# Altium schematic symbol library Schlib1.SchLib: 36 symbols
Pins are listed as number, name and electrical type; pins without a type are passive.

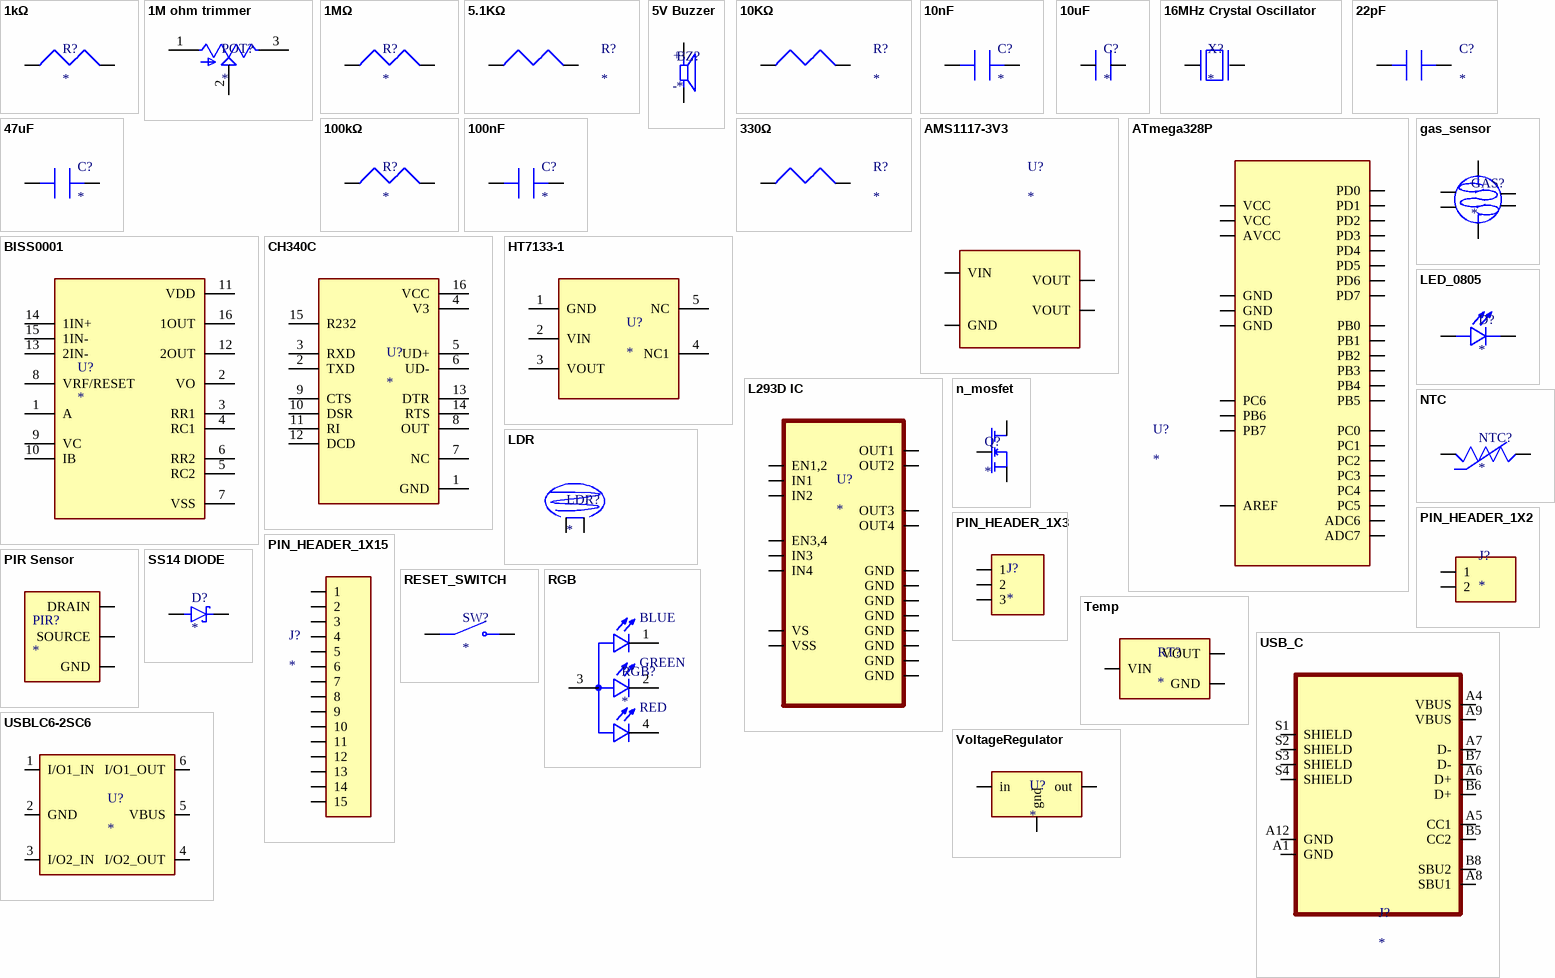
[diagram p0: symbols 1kΩ to VoltageRegulator]

## 1kΩ
designator R?
RES 1kΩ ±1% 125mW 0805; MFR: FOJAN; MFR part #: FRC0805F1001TS; supplier: lcsc; supplier part #: C2907232; ComponentLink1Description: New link; ComponentLink1URL: https://www.lcsc.com/product-detail/C2907232.html?s_z=n_q_t_resistor%25200805&spm=wm.fly.bg.1.xh___wm.ssy.tc.0.tz&lcsc_vid=RQUMVgBfFQNaX1cDEQBcUQJeElRWU1MCTwJYVlNRQlExVlNeTlBaUlJURlFWXjsOAxUeFF5JWBYZEEoKFBINSQcJGk4eFQsCAgIaSgADAwAHC0slRFlYV1xTWQkaCgg%3D; ComponentLink2Description: datasheet; ComponentLink2URL: https://www.lcsc.com/datasheet/C2907232.pdf?spm=wm.sxq.inf.ggs___wm.fly.bg.1.xh&lcsc_vid=RQUMVgBfFQNaX1cDEQBcUQJeElRWU1MCTwJYVlNRQlExVlNeTlBaUlJURlFWXjsOAxUeFF5JWBYZEEoKFBINSQcJGk4eFQsCAgIaSgADAwAHC0slRFlYV1xTWQkaCgg%3D
footprint RESC2013X55N (Chip Resistor, 2-Leads, Body 2.00x1.27mm, IPC Medium Density)
pins: 1 4, 2 5

## 1M ohm trimmer
designator POT?
POT 10kΩ 500mW Through Hole-3P,7x6.6mm; MFR: BOURNS; MFR part #: 3362P-1-103LF; supplier: lcsc; supplier part #: C58159; ComponentLink1Description: New link; ComponentLink1URL: https://www.lcsc.com/product-detail/C58159.html?s_z=n_q_t_3362&spm=wm.fly.bg.0.xh___wm.ssy.tc.0.tz&lcsc_vid=EVULUAZXQgMNAwVTEQcNAVxTFlNbX1YFFVgNBV1RQ1kxVlNeTlBbXlZWR1BWUzsOAxUeFF5JWBYZEEoKFBINSQcJGk4eFQsCAgIaSgADAwAHC0slRlNWVlFUWQkaCgg%3D; ComponentLink2Description: datasheet; ComponentLink2URL: https://www.lcsc.com/datasheet/C58159.pdf?spm=wm.sxq.inf.ggs___wm.fly.bg.0.xh&lcsc_vid=EVULUAZXQgMNAwVTEQcNAVxTFlNbX1YFFVgNBV1RQ1kxVlNeTlBbXlZWR1BWUzsOAxUeFF5JWBYZEEoKFBINSQcJGk4eFQsCAgIaSgADAwAHC0slRlNWVlFUWQkaCgg%3D
footprint 1M ohm Trimmer
pins: 1 CCW, 2 WIPER, 3 CW

## 1MΩ
designator R?
RES 1MΩ ±1% 125mW 0805; MFR: FOJAN; MFR part #: FRC0805F1004TS; supplier: lcsc; supplier part #: C2933280; ComponentLink1Description: New link; ComponentLink1URL: https://www.lcsc.com/product-detail/C2933280.html?s_z=n_q_t_1000k%2520ohm&spm=wm.fly.bg.3.xh___wm.ssy.tc.0.tz&lcsc_vid=EVULUAZXQgMNAwVTEQcNAVxTFlNbX1YFFVgNBV1RQ1kxVlNeTlBbXlNSQFZeUDsOAxUeFF5JWBYZEEoKFBINSQcJGk4NBhADEA4cHktXRlhXSQwSGg0%3D; ComponentLink2Description: datasheet; ComponentLink2URL: https://www.lcsc.com/datasheet/C2933280.pdf?spm=wm.sxq.inf.ggs___wm.fly.bg.3.xh&lcsc_vid=EVULUAZXQgMNAwVTEQcNAVxTFlNbX1YFFVgNBV1RQ1kxVlNeTlBbXlNSQFZeUDsOAxUeFF5JWBYZEEoKFBINSQcJGk4NBhADEA4cHktXRlhXSQwSGg0%3D
footprint RESC2013X55N (Chip Resistor, 2-Leads, Body 2.00x1.27mm, IPC Medium Density)
pins: 1 4, 2 5

## 5.1KΩ
designator R?
RES 5.1kΩ ±1% 62.5mW 0402; MFR: YAGEO; MFR part #: RC0402FR-075K1L; Supplier: LCSC; ComponentLink1Description: New link; ComponentLink1URL: https://www.lcsc.com/product-detail/C105872.html?s_z=n_q_t_res%25205.1k&spm=wm.fly.bg.0.xh___wm.ssy.tc.0.tz&lcsc_vid=EgReBFUDQwddVldUQgMNAlFTFlRdVlRRRAUNAVZRRlIxVlNeQFRfV1JRR1FdXzsOAxUeFF5JWBYZEEoKFBINSQcJGk4dAgUUFAk%3D; Supplier part #: C105872; ComponentLink2Description: data sheet; ComponentLink2URL: https://www.lcsc.com/datasheet/C105872.pdf?spm=wm.sxq.inf.ggs___wm.fly.bg.0.xh&lcsc_vid=EgReBFUDQwddVldUQgMNAlFTFlRdVlRRRAUNAVZRRlIxVlNeQFRfV1JRR1FdXzsOAxUeFF5JWBYZEEoKFBINSQcJGk4dAgUUFAk%3D
footprint RESC1005X40N (Chip Resistor, 2-Leads, Body 1.00x0.50mm, IPC Medium Density)
pins: 1 4, 2 5

## 5V Buzzer
designator BZ?
Electro-Magnetic Buzzer (SMD Type); MFR: Huaneng; ComponentLink1Description: New link; ComponentLink1URL: https://www.lcsc.com/product-detail/C94599.html; MFR part #: MLT-8530; supplier: LCSC; supplier part #: C94599; ComponentLink2Description: Datasheet; ComponentLink2URL: https://www.lcsc.com/datasheet/C94599.pdf?spm=wm.sxq.inf.ggs&lcsc_vid=EVULUAZXQgMNAwVTEQcNAVxTFlNbX1YFFVgNBV1RQ1kxVlNeTlFaV1ReR1hfUjsOAxUeFF5JWAYLCg0IHk8JCAsBGwRABAsLWA%3D%3D
footprint Buzzer
pins: N, P
text: +; -

## 10KΩ
designator R?
RES 10kΩ ±1% 100mW 0603; MFR: YAGEO; MFR part #: RC0603FR-0710KL; Supplier: LCSC; ComponentLink1Description: New link; ComponentLink1URL: https://www.lcsc.com/product-detail/C98220.html?s_z=n_q_p_RES%252010K%2520OHM&spm=wm.ssy.bg.0.xh&lcsc_vid=EgReBFUDQwddVldUQgMNAlFTFlRdVlRRRAUNAVZRRlIxVlNeQFRZX11XRFNaVTsOAxUeFF5JWBYZEEoKFBINSQcJGk4NBhADEA4cHktXRlhXSQwSGg0%3D; Supplier part #: C98220; ComponentLink2Description: data sheet; ComponentLink2URL: https://www.lcsc.com/datasheet/C98220.pdf?spm=wm.sxq.inf.ggs___wm.ssy.bg.0.xh&lcsc_vid=EgReBFUDQwddVldUQgMNAlFTFlRdVlRRRAUNAVZRRlIxVlNeQFRZX11XRFNaVTsOAxUeFF5JWBYZEEoKFBINSQcJGk4NBhADEA4cHktXRlhXSQwSGg0%3D
footprint RES_10K_0603
pins: 1 4, 2 5

## 10nF
designator C?
CAP CER 10nF 50V X7R 0603; MFR: YAGEO; MFR part #: CC0603KRX7R9BB103; supplier: LCSC; ComponentLink1Description: New link; ComponentLink1URL: https://www.lcsc.com/product-detail/C100042.html?s_z=n_q_t_10NF&spm=wm.fly.bg.1.xh___wm.ssy.tc.0.tz&lcsc_vid=EVULUAZXQgMNAwVTEQcNAVxTFlNbX1YFFVgNBV1RQ1kxVlNeTlBbXl1QRlNbUzsOAxUeFF5JWBYZEEoKFBINSQcJGk4eFQsCAgIaSgADAwAHC0slRVhdVFZeR08GEwkK; supplier part #: C100042; ComponentLink2Description: data sheet; ComponentLink2URL: https://www.lcsc.com/datasheet/C100042.pdf?spm=wm.sxq.inf.ggs___wm.fly.bg.1.xh&lcsc_vid=EVULUAZXQgMNAwVTEQcNAVxTFlNbX1YFFVgNBV1RQ1kxVlNeTlBbXl1QRlNbUzsOAxUeFF5JWBYZEEoKFBINSQcJGk4eFQsCAgIaSgADAwAHC0slRVhdVFZeR08GEwkK
footprint CAP_0603_100nf
pins: 1, 2

## 10uF
designator C?
CAP CER 10uF 25V X5R 0805; MFR: Taiyo Yuden; MFR part #: TMK212BBJ106KG-T; supplier: lcsc; supplier part #: C386085; ComponentLink1Description: New link; ComponentLink1URL: https://www.lcsc.com/product-detail/C386085.html?s_z=n_q_t_capacitor%25200805%2520&spm=wm.fly.bg.0.xh___wm.ssy.tc.0.tz&lcsc_vid=RQUMVgBfFQNaX1cDEQBcUQJeElRWU1MCTwJYVlNRQlExVlNeTlBaUldRQ1hZXzsOAxUeFF5JWBYZEEoKFBINSQcJGk4dAgUUFAk%3D; ComponentLink2Description: datasheet; ComponentLink2URL: https://www.lcsc.com/datasheet/C386085.pdf?spm=wm.sxq.inf.ggs___wm.fly.bg.0.xh&lcsc_vid=RQUMVgBfFQNaX1cDEQBcUQJeElRWU1MCTwJYVlNRQlExVlNeTlBaUldRQ1hZXzsOAxUeFF5JWBYZEEoKFBINSQcJGk4dAgUUFAk%3D
footprint CAP_0805_10uf (Chip Capacitor, 2-Leads, Body 2.00x1.25mm, IPC Medium Density)
pins: 1, 2

## 16MHz Crystal Oscillator
designator X?
CRYSTAL 16MHz 20pF SMD; MFR: YXC Crystal Oscillators; MFR part #: X49SM16MSD2SC; supplier: LCSC; supplier part #: C12676; ComponentLink1Description: New link; ComponentLink1URL: https://www.lcsc.com/product-detail/C12676.html; ComponentLink2Description: datasheet; ComponentLink2URL: https://www.lcsc.com/datasheet/C12676.pdf?spm=wm.sxq.inf.ggs&lcsc_vid=EVULUAZXQgMNAwVTEQcNAVxTFlNbX1YFFVgNBV1RQ1kxVlNeT1lfXlBURFlWVzsOAxUeFF5JWAYLCg0IHk8JCAsBGwRABAsLWA%3D%3D
footprint 16MHz Crystal
pins: 1, 2

## 22pF
designator C?
CAP CER 22pF 50V NP0 0402; MFR: YAGEO; MFR part #: CC0402JRNPO9BN220; ComponentLink1Description: New link; ComponentLink1URL: https://www.lcsc.com/product-detail/C106203.html?s_z=n_q_t_22pf&spm=wm.fly.bg.4.xh___wm.ssy.tc.0.tz&lcsc_vid=EVULUAZXQgMNAwVTEQcNAVxTFlNbX1YFFVgNBV1RQ1kxVlNeT1lcV1RUTlRbVzsOAxUeFF5JWBYZEEoKFBINSQcJGk4eFQsCAgIaSgADAwAHC0slRlNYUFJIHxUDCw%3D%3D; supplier: LCSC; supplier part #: C106203; ComponentLink2Description: datasheet; ComponentLink2URL: https://www.lcsc.com/datasheet/C106203.pdf?spm=wm.sxq.inf.ggs___wm.fly.bg.4.xh&lcsc_vid=EVULUAZXQgMNAwVTEQcNAVxTFlNbX1YFFVgNBV1RQ1kxVlNeT1lcV1RUTlRbVzsOAxUeFF5JWBYZEEoKFBINSQcJGk4eFQsCAgIaSgADAwAHC0slRlNYUFJIHxUDCw%3D%3D
footprint CAP_0402_22PF (Chip Capacitor, 2-Leads, Body 1.00x0.50mm, IPC Medium Density)
pins: 1, 2

## 47uF
designator C?
CAP CER 47uF 6.3V X5R 0603; MFR: muRata; MFR part #: GRM188R60J476ME15D; supplier: LCSC; ComponentLink1Description: New link; ComponentLink1URL: https://www.lcsc.com/product-detail/C140782.html?s_z=n_q_t_47UF&spm=wm.fly.bg.10.xh___wm.ssy.tc.2.tz&lcsc_vid=EVULUAZXQgMNAwVTEQcNAVxTFlNbX1YFFVgNBV1RQ1kxVlNeTlNfUVJXQ1JfVzsOAxUeFF5JWBYZEEoKFBINSQcJGk4%3D; supplier part #: C140782; ComponentLink2Description: data sheet; ComponentLink2URL: https://www.lcsc.com/datasheet/C140782.pdf?spm=wm.sxq.inf.ggs___wm.fly.bg.10.xh&lcsc_vid=EVULUAZXQgMNAwVTEQcNAVxTFlNbX1YFFVgNBV1RQ1kxVlNeTlNfUVJXQ1JfVzsOAxUeFF5JWBYZEEoKFBINSQcJGk4%3D
footprint CAP_0603_100nf
pins: 1, 2

## 100kΩ
designator R?
RES 100kΩ ±1% 125mW 0805; MFR: UNI-ROYAL; MFR part #: 0805W8F1003T5E; supplier: lcsc; supplier part #: C149504; ComponentLink1Description: New link; ComponentLink1URL: https://www.lcsc.com/product-detail/C149504.html?s_z=n_q_t_100%2520k%25CE%25A9%2520resistor%25200805&spm=wm.fly.bg.0.xh___wm.ssy.tc.0.tz&lcsc_vid=RQUMVgBfFQNaX1cDEQBcUQJeElRWU1MCTwJYVlNRQlExVlNeTlBcV1xUQVlbUjsOAxUeFF5JWBYZEEoKFBINSQcJGk4NBhADEA4cHktXRlhXSQwSGg0%3D; ComponentLink2Description: datasheet; ComponentLink2URL: https://www.lcsc.com/datasheet/C149504.pdf?spm=wm.sxq.inf.ggs___wm.fly.bg.0.xh&lcsc_vid=RQUMVgBfFQNaX1cDEQBcUQJeElRWU1MCTwJYVlNRQlExVlNeTlBcV1xUQVlbUjsOAxUeFF5JWBYZEEoKFBINSQcJGk4NBhADEA4cHktXRlhXSQwSGg0%3D
footprint RESC2013X55N (Chip Resistor, 2-Leads, Body 2.00x1.27mm, IPC Medium Density)
pins: 1 4, 2 5

## 100nF
designator C?
CAP CER 100nF 50V X7R 0603; MFR: Samsung Electro-Mechanics; MFR part #: CL10B104KB8NNNC; supplier: LCSC; ComponentLink1Description: New link; ComponentLink1URL: https://www.lcsc.com/product-detail/C1591.html?s_z=n_q_p_cap%2520100n%2520&spm=wm.ssy.bg.0.xh&lcsc_vid=EgReBFUDQwddVldUQgMNAlFTFlRdVlRRRAUNAVZRRlIxVlNeQFRWUFBTQ1lcVjsOAxUeFF5JWBYZEEoKFBINSQcJGk4NBhADEA4cHktQQlBADxALGw%3D%3D; supplier part #: C1591; ComponentLink2Description: data sheet; ComponentLink2URL: https://www.lcsc.com/datasheet/C1591.pdf?spm=wm.sxq.inf.ggs___wm.ssy.bg.0.xh&lcsc_vid=EgReBFUDQwddVldUQgMNAlFTFlRdVlRRRAUNAVZRRlIxVlNeQFRWUFBTQ1lcVjsOAxUeFF5JWBYZEEoKFBINSQcJGk4NBhADEA4cHktQQlBADxALGw%3D%3D
footprint CAP_0603_100nf
pins: 1, 2

## 330Ω
designator R?
RES 330Ω ±1% 125mW 0805; MFR: UNI-ROYAL; MFR part #: 0805W8F3300T5E; Supplier: LCSC; ComponentLink1Description: New link; ComponentLink1URL: https://www.lcsc.com/product-detail/C17630.html?s_z=n_q_0805%2520330%2520ohm%2520resistor&spm=wm.fly.bg.0.xh&lcsc_vid=T1QNA1xeQFcIAlReRFQMVgBVFlhZUV1RE1VaUQcHQgQxVlNeQVZeUVVVRlRZVjsOAxUeFF5JWBYZEEoKFBINSQcJGk4NBhADEA4cHktXRlhXSQwSGg0%3D; Supplier part #: C17630; ComponentLink2Description: data sheet; ComponentLink2URL: https://www.lcsc.com/datasheet/C17630.pdf?spm=wm.sxq.inf.ggs___wm.fly.bg.0.xh&lcsc_vid=T1QNA1xeQFcIAlReRFQMVgBVFlhZUV1RE1VaUQcHQgQxVlNeQVZeUVVVRlRZVjsOAxUeFF5JWBYZEEoKFBINSQcJGk4NBhADEA4cHktXRlhXSQwSGg0%3D
footprint RESC2013X65N (Chip Resistor, 2-Leads, Body 2.00x1.27mm, IPC Medium Density)
pins: 1 4, 2 5

## AMS1117-3V3
designator U?
1A Low Dropout (LDO) Regulator; MFR: Advanced Monolithic Systems; MFR part #: AMS1117-3.3; supplier: lcsc; supplier part #: C6186; ComponentLink1Description: New link; ComponentLink1URL: https://www.lcsc.com/product-detail/C6186.html?s_z=n_q_am1117&spm=wm.fly.bg.0.stp&lcsc_vid=T1QNA1xeQFcIAlReRFQMVgBVFlhZUV1RE1VaUQcHQgQxVlNeQVZeVVJeRlVbXzsOAxUeFF5JWBYZEEoKFBINSQcJGk4NBhADEA4cHktXRlVcSQwSGg0%3D; ComponentLink2Description: data sheet; ComponentLink2URL: https://www.lcsc.com/datasheet/C6186.pdf?spm=wm.sxq.inf.ggs___wm.fly.bg.0.stp&lcsc_vid=T1QNA1xeQFcIAlReRFQMVgBVFlhZUV1RE1VaUQcHQgQxVlNeQVZeVVJeRlVbXzsOAxUeFF5JWBYZEEoKFBINSQcJGk4NBhADEA4cHktXRlVcSQwSGg0%3D
footprint SOT230P700X180-4N (SOT223, 4-Leads, Body 6.51x7.00mm (avg), Pitch 2.30mm, IPC Medium Density)
pins: 1 GND, 2 VOUT, 3 VIN, 4 VOUT

## ATmega328P
designator U?
8-bit Microcontroller with In-System Programmable Flash; MFR: MICROCHIP; MFR part #: ATMEGA328P-AU; supplier: lcsc; supplier part #: C14877; ComponentLink1Description: New link; ComponentLink1URL: https://www.lcsc.com/product-detail/C14877.html?s_z=n_q_t_atmega328p%2520TQFP&spm=wm.fly.bg.0.xh___wm.ssy.tc.0.tz&lcsc_vid=EVULUAZXQgMNAwVTEQcNAVxTFlNbX1YFFVgNBV1RQ1kxVlNeT1ZdUlRQQ1JWUjsOAxUeFF5JWBYZEEoKFBINSQcJGk4NBhADEA4cHktfQ1BADxALGw%3D%3D; ComponentLink2Description: datasheet; ComponentLink2URL: https://www.lcsc.com/datasheet/C14877.pdf?spm=wm.sxq.inf.ggs___wm.fly.bg.0.xh&lcsc_vid=EVULUAZXQgMNAwVTEQcNAVxTFlNbX1YFFVgNBV1RQ1kxVlNeT1ZdUlRQQ1JWUjsOAxUeFF5JWBYZEEoKFBINSQcJGk4NBhADEA4cHktfQ1BADxALGw%3D%3D
footprint TQFP80P900X900X120-32N (TQFP, 32-Leads, Body 7.00x7.00mm, Pitch 0.80mm, IPC Medium Density)
pins: 1 PD3, 2 PD4, 3 GND, 4 VCC, 5 GND, 6 VCC, 7 PB6, 8 PB7, 9 PD5, 10 PD6, 11 PD7, 12 PB0, 13 PB1, 14 PB2, 15 PB3, 16 PB4, 17 PB5, 18 AVCC, 19 ADC6, 20 AREF, 21 GND, 22 ADC7, 23 PC0, 24 PC1, 25 PC2, 26 PC3, 27 PC4, 28 PC5, 29 PC6, 30 PD0, 31 PD1, 32 PD2

## BISS0001
designator U?
Infrared Sensing Signal Processor; MFR: UMW; MFR part #: BISS0001; supplier: lcsc; supplier part #: C404323; ComponentLink1Description: New link; ComponentLink1URL: https://www.lcsc.com/product-detail/C404323.html?s_z=n_q_t_BISS0001&spm=wm.fly.bg.0.stp___wm.ssy.tc.0.tz&lcsc_vid=EVULUAZXQgMNAwVTEQcNAVxTFlNbX1YFFVgNBV1RQ1kxVlNeTlBaVF1eTlVcVDsOAxUeFF5JWBYZEEoKFBINSQcJGk4eFQsCAgIaSgADAwAHC0slRVlWUF1WRk8GEwkK; ComponentLink2Description: datasheet; ComponentLink2URL: https://www.lcsc.com/datasheet/C404323.pdf?spm=wm.sxq.inf.ggs___wm.fly.bg.0.stp&lcsc_vid=EVULUAZXQgMNAwVTEQcNAVxTFlNbX1YFFVgNBV1RQ1kxVlNeTlBaVF1eTlVcVDsOAxUeFF5JWBYZEEoKFBINSQcJGk4eFQsCAgIaSgADAwAHC0slRVlWUF1WRk8GEwkK
footprint BISS0001
pins: 1 A, 2 VO, 3 RR1, 4 RC1, 5 RC2, 6 RR2, 7 VSS (power), 8 VRF/RESET, 9 VC, 10 IB, 11 VDD (power), 12 2OUT, 13 2IN-, 14 1IN+, 15 1IN-, 16 1OUT

## CH340C
designator U?
USB to Serial Port chip; MFR part #: CH340C; MFR: WCH; supplier: lcsc; supplier part #: C84681; ComponentLink1Description: New link; ComponentLink1URL: https://www.lcsc.com/product-detail/C84681.html?s_z=n_q_CH340C&spm=wm.fly.bg.0.stp&lcsc_vid=EVULUAZXQgMNAwVTEQcNAVxTFlNbX1YFFVgNBV1RQ1kxVlNeTlBbUVxWRFJfUTsOAxUeFF5JWBYZEEoKFBINSQcJGk4%3D; ComponentLink2Description: DATASHEET; ComponentLink2URL: https://www.lcsc.com/datasheet/C84681.pdf?spm=wm.sxq.inf.ggs___wm.fly.bg.0.stp&lcsc_vid=EVULUAZXQgMNAwVTEQcNAVxTFlNbX1YFFVgNBV1RQ1kxVlNeTlBbUVxWRFJfUTsOAxUeFF5JWBYZEEoKFBINSQcJGk4%3D
footprint CH340C
pins: 1 GND, 2 TXD, 3 RXD, 4 V3, 5 UD+, 6 UD-, 7 NC, 8 OUT, 9 CTS, 10 DSR, 11 RI, 12 DCD, 13 DTR, 14 RTS, 15 R232, 16 VCC (power)

## gas_sensor
designator GAS?
300ppm~10000ppm Through Hole Gas Sensors; MFR: Zhengzhou Winsen Elec Tech; MFR part #: MQ-2; supplier: lcsc; supplier part #: C99296; ComponentLink1Description: New link; ComponentLink1URL: https://www.lcsc.com/product-detail/C99296.html?s_z=n_q_C99296&globalKeyword=C99296; ComponentLink2Description: datasheet; ComponentLink2URL: https://www.lcsc.com/datasheet/C99296.pdf?spm=wm.sxq.inf.ggs&lcsc_vid=RQUMVgBfFQNaX1cDEQBcUQJeElRWU1MCTwJYVlNRQlExVlNeTlBdXlZQQllaVDsOAxUeFF5JWBYZEEoKFBINSQcJGk4NBhADEA4cHkteQlRADxALGw%3D%3D
footprint gas_sensor - duplicate
pins: 1, 2, 3, 4, 5 H, 6 16

## HT7133-1
designator U?
LDO high voltage regulator; MFR: UMW; MFR part #: HT7133-1; supplier: lcsc; supplier part #: C347181; ComponentLink1Description: New link; ComponentLink1URL: https://www.lcsc.com/product-detail/C347181.html?s_z=n_q_HT7133&spm=wm.fly.bg.3.stp&lcsc_vid=EVULUAZXQgMNAwVTEQcNAVxTFlNbX1YFFVgNBV1RQ1kxVlNeTlBaU1ZTQ1FZUzsOAxUeFF5JWBYZEEoKFBINSQcJGk4dAgUUFAk%3D; ComponentLink2Description: datasheet; ComponentLink2URL: https://www.lcsc.com/datasheet/C347181.pdf?spm=wm.sxq.inf.ggs___wm.fly.bg.3.stp&lcsc_vid=EVULUAZXQgMNAwVTEQcNAVxTFlNbX1YFFVgNBV1RQ1kxVlNeTlBaU1ZTQ1FZUzsOAxUeFF5JWBYZEEoKFBINSQcJGk4dAgUUFAk%3D
footprint HT7133-1
pins: 1 GND (power), 2 VIN (power), 3 VOUT (power), 4 NC1, 5 NC

## L293D IC
designator U?
PUSH-PULL FOUR CHANNEL DRIVER WITH DIODES; MFR: HGSEMI; MFR part #: L293DDM/TR; supplier: lcsc; supplier part #: C2973803; ComponentLink1Description: New link; ComponentLink1URL: https://www.lcsc.com/product-detail/C2973803.html?s_z=n_q_t_L293D&spm=wm.fly.bg.1.xh___wm.ssy.tc.0.tz&lcsc_vid=EVULUAZXQgMNAwVTEQcNAVxTFlNbX1YFFVgNBV1RQ1kxVlNeT1lfUVRfQFVXUDsOAxUeFF5JWBYZEEoKFBINSQcJGk4NBhADEA4cHktfQ1BADxALGw%3D%3D; ComponentLink2Description: Datasheet; ComponentLink2URL: https://www.lcsc.com/datasheet/C2973803.pdf?spm=wm.sxq.inf.ggs___wm.fly.bg.1.xh&lcsc_vid=EVULUAZXQgMNAwVTEQcNAVxTFlNbX1YFFVgNBV1RQ1kxVlNeT1lfUVRfQFVXUDsOAxUeFF5JWBYZEEoKFBINSQcJGk4NBhADEA4cHktfQ1BADxALGw%3D%3D
footprint SOIC127P1040X250-20N (SOIC, 20-Leads, Body 12.75x7.50mm, Pitch 1.27mm, IPC Medium Density)
pins: 1 EN1,2, 2 IN1, 3 OUT1, 4 GND, 5 GND, 6 GND, 7 GND, 8 OUT2, 9 IN2, 10 VS, 11 EN3,4, 12 IN3, 13 OUT3, 14 GND, 15 GND, 16 GND, 17 GND, 18 OUT4, 19 IN4, 20 VSS

## LDR
designator LDR?
540nm 50kΩ~100kΩ 5MΩ Through Hole Photoresistors; MFR: NTE Electronics; MFR part #: 02-LDR1; supplier: lcsc; supplier part #: C17682488; ComponentLink1Description: New link; ComponentLink1URL: https://www.lcsc.com/product-detail/C17682488.html?s_z=n_q_LDR%2520C17682488&spm=wm.fly.bg.0.xh&lcsc_vid=RQUMVgBfFQNaX1cDEQBcUQJeElRWU1MCTwJYVlNRQlExVlNeTlBcV1NeRVBbXzsOAxUeFF5JWBYZEEoKFBINSQcJGk4NBhADEA4cHktSRlNADxALGw%3D%3D; ComponentLink2Description: datasheet; ComponentLink2URL: https://www.lcsc.com/datasheet/C17682488.pdf?spm=wm.sxq.inf.ggs___wm.fly.bg.0.xh&lcsc_vid=RQUMVgBfFQNaX1cDEQBcUQJeElRWU1MCTwJYVlNRQlExVlNeTlBcV1NeRVBbXzsOAxUeFF5JWBYZEEoKFBINSQcJGk4NBhADEA4cHktSRlNADxALGw%3D%3D
footprint LDR
pins: 1, 2

## LED_0805
designator D?
LED RED 0805 SMD; MFR: YONGYUTAI; MFR part #: YLED0805R; supplier: LCSC; supplier part #: C19171391; ComponentLink1Description: New link; ComponentLink1URL: https://www.lcsc.com/product-detail/C19171391.html?s_z=n_q_t_0805%2520LED&spm=wm.fly.bg.0.xh___wm.ssy.tc.0.tz&lcsc_vid=T1QNA1xeQFcIAlReRFQMVgBVFlhZUV1RE1VaUQcHQgQxVlNeQVZfVlRRQFZdUTsOAxUeFF5JWBYZEEoKFBINSQcJGk4NBhADEA4cHktSRlNADxALGw%3D%3D; ComponentLink2Description: data sheet; ComponentLink2URL: https://www.lcsc.com/datasheet/C19171391.pdf?spm=wm.sxq.inf.ggs___wm.fly.bg.0.xh&lcsc_vid=T1QNA1xeQFcIAlReRFQMVgBVFlhZUV1RE1VaUQcHQgQxVlNeQVZfVlRRQFZdUTsOAxUeFF5JWBYZEEoKFBINSQcJGk4NBhADEA4cHktSRlNADxALGw%3D%3D
footprint LED_0805
pins: 1 A, 2 C

## n_mosfet
designator Q?
MOSFET N-CH 60V 0.3A SOT-23; MFR: MSKSEMI; MFR part #: 2N7002K; supplier: lcsc; supplier part #: C3008053; ComponentLink1Description: New link; ComponentLink1URL: https://www.lcsc.com/product-detail/C3008053.html?s_z=n_q_C3008053&globalKeyword=C3008053; ComponentLink2Description: datasheet; ComponentLink2URL: https://www.lcsc.com/datasheet/C3008053.pdf?spm=wm.sxq.inf.ggs&lcsc_vid=RQUMVgBfFQNaX1cDEQBcUQJeElRWU1MCTwJYVlNRQlExVlNeTlBaVVRSQ1BfVDsOAxUeFF5JWBYZEEoKFBINSQcJGk4eFQsCAgIaSgADAwAHC0slRFFeX1RTRE8GEwkK
footprint n_mosfet
pins: 1, 2, 3

## NTC
designator NTC?
THERMISTOR NTC 10kΩ 3380K 0402; MFR: TDK; MFR part #: NTCG103JF103FT1; supplier: lcsc; supplier part #: C209959; ComponentLink1Description: New link; ComponentLink1URL: https://www.lcsc.com/product-detail/C209959.html?s_z=n_q_NTCG103JF103FT1&spm=wm.fly.bg.0.xh&lcsc_vid=EVULUAZXQgMNAwVTEQcNAVxTFlNbX1YFFVgNBV1RQ1kxVlNeTlNfX1xWQVBbUjsOAxUeFF5JWBYZEEoKFBINSQcJGk4NBhADEA4cHktXRVZcSQwSGg0%3D; ComponentLink2Description: DATASHEET; ComponentLink2URL: https://www.lcsc.com/datasheet/C209959.pdf?spm=wm.sxq.inf.ggs___wm.fly.bg.0.xh&lcsc_vid=EVULUAZXQgMNAwVTEQcNAVxTFlNbX1YFFVgNBV1RQ1kxVlNeTlNfX1xWQVBbUjsOAxUeFF5JWBYZEEoKFBINSQcJGk4NBhADEA4cHktXRVZcSQwSGg0%3D
footprint NTC
pins: 1, 2

## PIN_HEADER_1X2
designator J?
CONN HEADER 2POS 2.54mm SINGLE ROW TH; MFR: hanxia; MFR part #: HX PZ2.54-1x2P ZZ; supplier: lcsc; supplier part #: C32713268; ComponentLink1Description: data sheet; ComponentLink1URL: https://www.lcsc.com/product-detail/C32713268.html?s_z=n_q_t_pin%2520header&spm=wm.fly.bg.3.stp___wm.ssy.tc.0.tz&lcsc_vid=EVULUAZXQgMNAwVTEQcNAVxTFlNbX1YFFVgNBV1RQ1kxVlNeTlBYVVZfRlJcUjsOAxUeFF5JWBYZEEoKFBINSQcJGk4eFQsCAgIaSgADAwAHC0slRVZdUVVXWQkaCgg%3D; ComponentLink2Description: New link 1; ComponentLink2URL: https://www.lcsc.com/datasheet/C32713268.pdf?spm=wm.sxq.inf.ggs___wm.fly.bg.3.stp&lcsc_vid=EVULUAZXQgMNAwVTEQcNAVxTFlNbX1YFFVgNBV1RQ1kxVlNeTlBYVVZfRlJcUjsOAxUeFF5JWBYZEEoKFBINSQcJGk4eFQsCAgIaSgADAwAHC0slRVZdUVVXWQkaCgg%3D
footprint PIN_HEADER_1X2
pins: 1, 2

## PIN_HEADER_1X3
designator J?
1kV 1 2.54mm Pin Header 3A 2.5mm Through Hole 6mm 3P -40℃~+105℃ 3mm Gold 1x3P Through Hole,P=2.54mm Headers, Male Pins; MFR: hanxia; MFR part #: HX PH254-01-03-Z-L11.5 pcb pin header; supplier: lcsc; supplier part #: C52016391; ComponentLink1Description: data sheet; ComponentLink1URL: https://www.lcsc.com/datasheet/C52016391.pdf?spm=wm.sxq.inf.ggs___wm.ssy.bg.1.xh&lcsc_vid=EgReBFUDQwddVldUQgMNAlFTFlRdVlRRRAUNAVZRRlIxVlNeQFRZXlFSR1dZVDsOAxUeFF5JWBYZEEoKFBINSQcJGk4NBhADEA4cHktfQVVADxALGw%3D%3D; ComponentLink2Description: New link 1; ComponentLink2URL: https://www.lcsc.com/product-detail/C52016391.html?s_z=n_q_p_Pin%2520Header%25202.54mm%25201x3&spm=wm.ssy.bg.1.xh&lcsc_vid=EgReBFUDQwddVldUQgMNAlFTFlRdVlRRRAUNAVZRRlIxVlNeQFRZXlFSR1dZVDsOAxUeFF5JWBYZEEoKFBINSQcJGk4NBhADEA4cHktfQVVADxALGw%3D%3D
footprint PIN_HEADER_1X3
pins: 1, 2, 3

## PIN_HEADER_1X15
designator J?
CONN HEADER 15POS 2.54mm SINGLE ROW TH; MFR: Megastar; MFR part #: ZX-PZ2.54-1-15PZZ; supplier: lcsc; supplier part #: C7501269; ComponentLink1Description: data sheet; ComponentLink1URL: https://www.lcsc.com/datasheet/C7501269.pdf?spm=wm.sxq.inf.ggs___wm.fly.bg.1.xh&lcsc_vid=EVULUAZXQgMNAwVTEQcNAVxTFlNbX1YFFVgNBV1RQ1kxVlNeTlNeUVFUT1ddXzsOAxUeFF5JWBYZEEoKFBINSQcJGk4eFQsCAgIaSgADAwAHC0slQ1BaVVNWQVlADxALGw%3D%3D; ComponentLink2Description: New link 1; ComponentLink2URL: https://www.lcsc.com/product-detail/C7501269.html?s_z=n_q_t_15P%2520HEADER&spm=wm.fly.bg.1.xh___wm.ssy.tc.0.tz&lcsc_vid=EVULUAZXQgMNAwVTEQcNAVxTFlNbX1YFFVgNBV1RQ1kxVlNeTlNeUVFUT1ddXzsOAxUeFF5JWBYZEEoKFBINSQcJGk4eFQsCAgIaSgADAwAHC0slQ1BaVVNWQVlADxALGw%3D%3D
footprint PIN_HEADER_1X15
pins: 1, 2, 3, 4, 5, 6, 7, 8, 9, 10, 11, 12, 13, 14, 15

## PIR Sensor
designator PIR?
Pyroelectric infrared sensor; MFR: Senba Sensing Tech; MFR part #: D203S; supplier: lcsc; supplier part #: C78793; ComponentLink1Description: New link; ComponentLink1URL: https://www.lcsc.com/product-detail/C78793.html?s_z=n_q_C78793&globalKeyword=C78793; ComponentLink2Description: datasheet; ComponentLink2URL: https://www.lcsc.com/datasheet/C78793.pdf?spm=wm.sxq.inf.ggs&lcsc_vid=EVULUAZXQgMNAwVTEQcNAVxTFlNbX1YFFVgNBV1RQ1kxVlNeTlBaUlBVRVhWUjsOAxUeFF5JWBYZEEoKFBINSQcJGk4dAgUUFAk%3D
footprint PIR_MOTION SENSOR
pins: 1 DRAIN (power), 2 SOURCE, 3 GND (power)

## RESET_SWITCH
designator SW?
SWITCH TACTILE SPST 250gf SMD; MFR: hanxia; MFR part #: HX 3x6x2.5A-2.5N; supplier: lcsc; supplier part #: SMD,6x3mm; ComponentLink1Description: New link; ComponentLink1URL: https://www.lcsc.com/product-detail/C36498960.html?s_z=n_q_t_Tactile%2520switch&spm=wm.fly.bg.18.stp___wm.ssy.tc.0.tz&lcsc_vid=EVULUAZXQgMNAwVTEQcNAVxTFlNbX1YFFVgNBV1RQ1kxVlNeTlBYVFFeQFNXVTsOAxUeFF5JWBYZEEoKFBINSQcJGk4NBhADEA4cHktRTlNADxALGw%3D%3D; ComponentLink2Description: DATASHEET; ComponentLink2URL: https://www.lcsc.com/datasheet/C36498960.pdf?spm=wm.sxq.inf.ggs___wm.fly.bg.18.stp&lcsc_vid=EVULUAZXQgMNAwVTEQcNAVxTFlNbX1YFFVgNBV1RQ1kxVlNeTlBYVFFeQFNXVTsOAxUeFF5JWBYZEEoKFBINSQcJGk4NBhADEA4cHktRTlNADxALGw%3D%3D
footprint RESET_SWITCH
pins: 1, 2

## RGB
designator RGB?
LED RED, GREEN, BLUE WATER CLEAR SMD; MFR: TOGIALED; MFR part #: TJ-S1608SW6TDSLCCYRGB-A5; upplier: lcsc; ComponentLink1Description: New link; ComponentLink1URL: https://www.lcsc.com/product-detail/C5356078.html?s_z=n_q_C5356078&globalKeyword=C5356078; supplier part #: C5356078; ComponentLink2Description: New link 1; ComponentLink2URL: https://www.lcsc.com/datasheet/C5356078.pdf?spm=wm.sxq.inf.ggs&lcsc_vid=EVULUAZXQgMNAwVTEQcNAVxTFlNbX1YFFVgNBV1RQ1kxVlNeTlBYVVRfTlVdUTsOAxUeFF5JWBYZEEoKFBINSQcJGk4NBhADEA4cHktSRlNADxALGw%3D%3D
footprint RGB
pins: 1 B_C, 2 G_C, 3 A, 4 R_C
text: BLUE; GREEN; RED

## SS14 DIODE
designator D?
DIODE SCHOTTKY 40V SMA(DO-214AC); MFR: MDD(Microdiode Semiconductor); MFR part #: SS14; supplier: lcsc; ComponentLink1Description: New link; ComponentLink1URL: https://www.lcsc.com/product-detail/C2480.html?s_z=n_q_x_SS14&spm=wm.ssy.em.0.tz&lcsc_vid=EVULUAZXQgMNAwVTEQcNAVxTFlNbX1YFFVgNBV1RQ1kxVlNeTlBYV1VVQ1NWXzsOAxUeFF5JWBYZEEoKFBINSQcJGk4NBhADEA4cHktXRlhXSQwSGg0%3D; supplier part #: C2480; ComponentLink2Description: datasheet; ComponentLink2URL: https://www.lcsc.com/datasheet/C2480.pdf?spm=wm.sxq.inf.ggs___wm.ssy.em.0.tz&lcsc_vid=EVULUAZXQgMNAwVTEQcNAVxTFlNbX1YFFVgNBV1RQ1kxVlNeTlBYV1VVQ1NWXzsOAxUeFF5JWBYZEEoKFBINSQcJGk4NBhADEA4cHktXRlhXSQwSGg0%3D
footprint SS14 DIODE
pins: P1 A, P2 C

## Temp
designator RT?
Low Voltage Temperature Sensors; MFR: ADI; MFR part #: TMP36GT9Z; supplier: lcsc; supplier part #: C53490; ComponentLink1Description: New link; ComponentLink1URL: https://www.lcsc.com/product-detail/C53490.html?s_z=n_q_C53490&globalKeyword=C53490; ComponentLink2Description: datasheet; ComponentLink2URL: https://www.lcsc.com/datasheet/C53490.pdf?spm=wm.sxq.inf.ggs&lcsc_vid=RQUMVgBfFQNaX1cDEQBcUQJeElRWU1MCTwJYVlNRQlExVlNeTlBbU1JTR1hYUDsOAxUeFF5JWBYZEEoKFBINSQcJGk4eFQsCAgIaSgADAwAHC0slQVhfVlVQWQkaCgg%3D
footprint temp
pins: 1 VIN, 2 VOUT, 3 GND

## USB_C
designator J?
CONN RCPT Type-C 16POS SMD; MFR: Korean Hroparts Elec; MFR part #: TYPE-C-31-M-12; supplier: lcsc; supplier part #: C165948; ComponentLink1Description: New link; ComponentLink1URL: https://www.lcsc.com/product-detail/C165948.html?s_z=n_q_p_USB%2520TYPE%2520C&spm=wm.ssy.bg.1.xh&lcsc_vid=T1QNA1xeQFcIAlReRFQMVgBVFlhZUV1RE1VaUQcHQgQxVlNeQFVdUF1RQFBZVDsOAxUeFF5JWBYZEEoKFBINSQcJGk4eFQsCAgIaSgADAwAHC0slT1ZdU0oOAwwC; ComponentLink2Description: data sheet; ComponentLink2URL: https://www.lcsc.com/datasheet/C165948.pdf?spm=wm.sxq.inf.ggs___wm.ssy.bg.1.xh&lcsc_vid=T1QNA1xeQFcIAlReRFQMVgBVFlhZUV1RE1VaUQcHQgQxVlNeQFVdUF1RQFBZVDsOAxUeFF5JWBYZEEoKFBINSQcJGk4eFQsCAgIaSgADAwAHC0slT1ZdU0oOAwwC
footprint USB_TYPE_C_16_PINS
pins: A1 GND, A4 VBUS, A5 CC1, A6 D+, A7 D-, A8 SBU1, A9 VBUS, A12 GND, B5 CC2, B6 D+, B7 D-, B8 SBU2, S1 SHIELD , S2 SHIELD , S3 SHIELD , S4 SHIELD 

## USBLC6-2SC6
designator U?
ESD DIODE 5.25VWM 17VC SOT-23-6L; MFR: ST; MFR part #: USBLC6-2SC6; supplier: lcsc; supplier part #: C7519; ComponentLink1Description: datasheet; ComponentLink1URL: https://www.lcsc.com/datasheet/C7519.pdf?spm=wm.sxq.inf.ggs___wm.fly.bg.0.stp&lcsc_vid=EgReBFUDQwddVldUQgMNAlFTFlRdVlRRRAUNAVZRRlIxVlNeQFRcVFFXQ1lbVTsOAxUeFF5JWBYZEEoKFBINSQcJGk4NBhADEA4cHktXRlhXSQwSGg0%3D; ComponentLink2Description: New link 1; ComponentLink2URL: https://www.lcsc.com/product-detail/C7519.html?s_z=n_q_USBLC6-2SC6&spm=wm.fly.bg.0.stp&lcsc_vid=EgReBFUDQwddVldUQgMNAlFTFlRdVlRRRAUNAVZRRlIxVlNeQFRcVFFXQ1lbVTsOAxUeFF5JWBYZEEoKFBINSQcJGk4NBhADEA4cHktXRlhXSQwSGg0%3D
footprint SOT95P280X145-6N (SOT23, 6-Leads, Body 2.93x2.80mm, Pitch 0.95mm, IPC Medium Density)
pins: 1 I/O1_IN, 2 GND, 3 I/O2_IN, 4 I/O2_OUT, 5 VBUS, 6 I/O1_OUT

## VoltageRegulator
designator U?
TO-220 plastic-packaged voltage regulator; MFR: BLUE ROCKET; MFR part #: 7805A; supplier: lcsc; supplier part #: C7429876; ComponentLink1Description: New link; ComponentLink1URL: https://www.lcsc.com/product-detail/C7429876.html?s_z=n_q_C7429876&globalKeyword=C7429876; ComponentLink2Description: datasheet; ComponentLink2URL: https://www.lcsc.com/datasheet/C7429876.pdf?spm=wm.sxq.inf.ggs&lcsc_vid=RQUMVgBfFQNaX1cDEQBcUQJeElRWU1MCTwJYVlNRQlExVlNeTlBaVlFQQlZfUzsOAxUeFF5JWBYZEEoKFBINSQcJGk4eFQsCAgIaSgADAwAHC0slRVlaX1ZSRk8GEwkK
footprint regulator
pins: 1 in, 2 out, 3 gnd